# EAGLE library part PIC16F648 (library FP-21T for MITS)
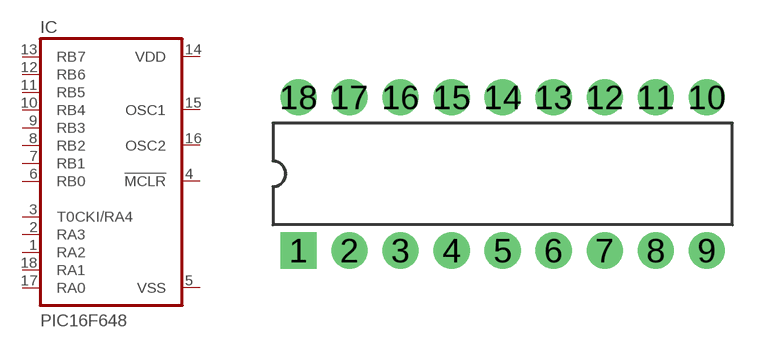
[diagram p0: symbol with the pads of DIL18; footprint DIL18]

Designator prefix IC

## PIC16F648  [DIL18]
1  RA2
2  RA3
3  T0CKI/RA4
4  !MCLR  in
5  VSS  pwr
6  RB0
7  RB1
8  RB2
9  RB3
10  RB4
11  RB5
12  RB6
13  RB7
14  VDD  pwr
15  OSC1  in
16  OSC2  out
17  RA0
18  RA1

## Footprint DIL18 (pad centres in mm)
Dual In Line package type P
drill 1 pad 1.8 square: 1 -10.16,-3.81
drill 1 pad 1.8: 2 -7.62,-3.81; 3 -5.08,-3.81; 4 -2.54,-3.81; 5 0,-3.81; 6 2.54,-3.81; 7 5.08,-3.81; 8 7.62,-3.81; 9 10.16,-3.81; 10 10.16,3.81; 11 7.62,3.81; 12 5.08,3.81; 13 2.54,3.81; 14 0,3.81; 15 -2.54,3.81; 16 -5.08,3.81; 17 -7.62,3.81; 18 -10.16,3.81